# Altium footprint library PcbLib1.PcbLib: 8 footprints
Each footprint in its own frame and in the unit in brackets; x right, y up, seen from the top. Pads: shape width x height; smd on the part's side, far side on the other; paste and mask are expansions set on the pad; w line width, h text height; cw(c..) or ccw(c..) is an arc to the next point about the centre after c.
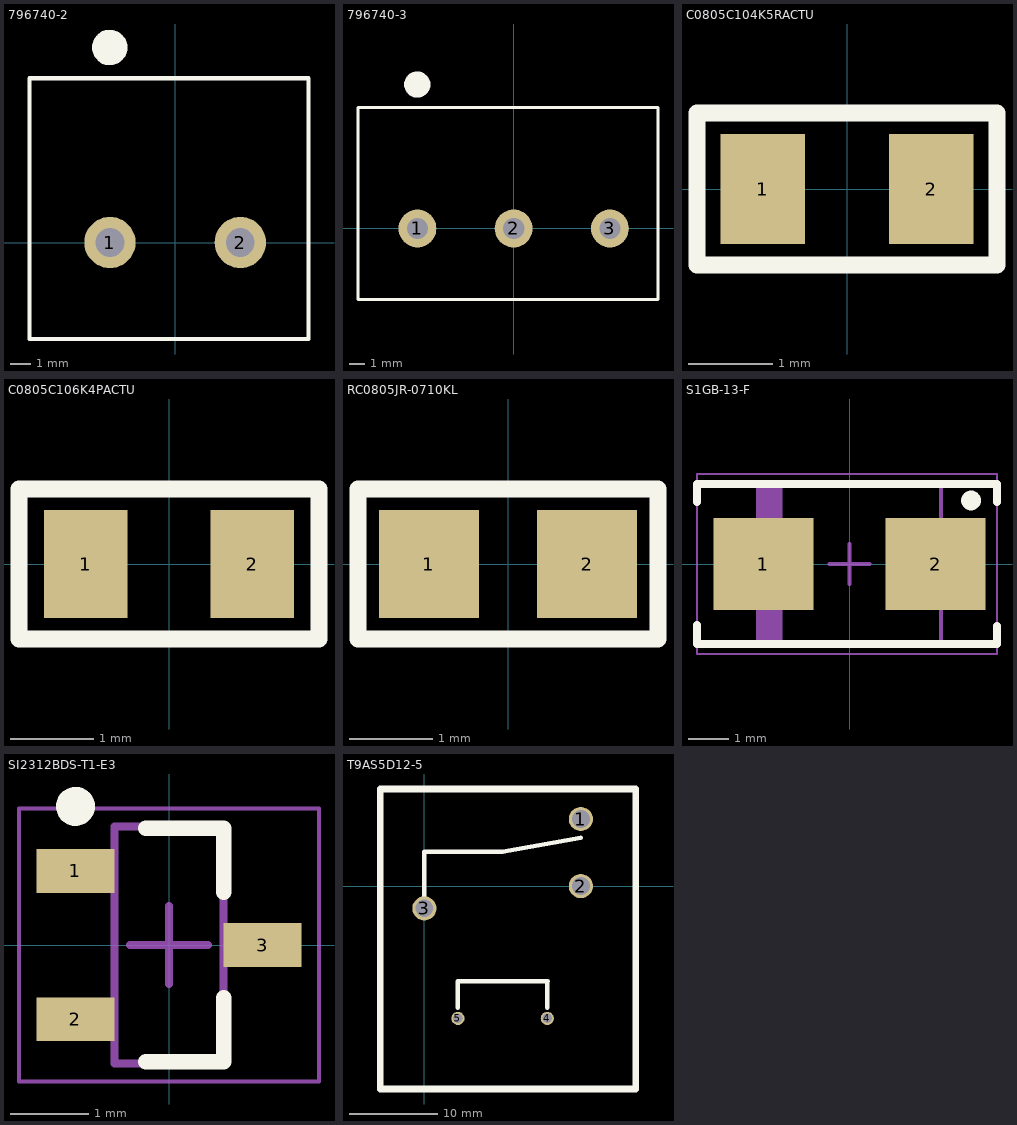
[diagram p0: the footprints below, top view; thin cyan lines are the x and y axes]

## 796740-2 [mm]
pads (2):
  round 2.5 hole 1.4: 1(-3.175,0) 2(3.175,0)
Top Overlay:
  circle w0.9: c-3.188,9.5 r0.412
  lines w0.2: -7.1,-4.7 6.5,-4.7 6.5,8 -7.1,8 -7.1,-4.7
3D body "796740-2.stp": height 21.51, standoff -4.99, extent -6.95,-4.6 6.35,7.9

## 796740-3 [mm]
pads (3):
  round 2.5 hole 1.4: 1(-6.35,0) 2(0,0) 3(6.35,0)
Top Overlay:
  circle w0.9: c-6.363,9.5 r0.412
  lines w0.2: -10.275,-4.7 -10.275,8 9.525,8 9.525,-4.7 -10.275,-4.7
3D body "796740-3.stp": height 21.51, standoff -4.99, extent -10.125,-4.6 9.525,7.9

## C0805C104K5RACTU [mm]
pads (2):
  rect 1x1.3 smd: 1(-1,0) 2(1,0)
Top Overlay:
  lines w0.2: -1.778,-0.9 1.778,-0.9 1.778,0.9 -1.778,0.9 -1.778,-0.9
3D body "CAPC2012X88N EIA 0805.step": height 0.89, standoff 0.01, extent -1,-0.6 1,0.6

## C0805C106K4PACTU [mm]
pads (2):
  rect 1x1.3 smd: 1(-1,0) 2(1,0)
Top Overlay:
  lines w0.2: -1.8,-0.9 -1.8,0.9 1.8,0.9 1.8,-0.9 -1.8,-0.9
3D body "CAPC2012X140N EIA 0805.step": height 1.21, standoff 0.01, extent -1,-0.7 1,0.7

## RC0805JR-0710KL [mm]
pads (2):
  rect 1.2x1.3 smd: 1(-0.95,0) 2(0.95,0)
Top Overlay:
  lines w0.2: -1.8,-0.9 -1.8,0.9 1.8,0.9 1.8,-0.9 -1.8,-0.9
3D body "RC0805JR-0710KL.STEP": height 0.61, standoff 0.01, extent -1,-0.625 1,0.625

## S1GB-13-F [mm]
height 2.5
pads (2):
  rect 2.5x2.3 smd: 1(-2.15,0) 2(2.15,0)
Top Overlay:
  circle w0.254: c3.035,1.587 r0.12
  lines w0.2: -3.81,-1.524 -3.81,-2 3.683,-2 3.683,-1.55 ; -3.81,1.55 -3.81,2 3.683,2 3.683,1.55
Mechanical 13:
  rectangle: -2.285,-1.97 -1.67,1.97
  lines w0.1: -2.285,-1.97 2.285,-1.97 2.285,1.97 -2.285,1.97 -2.285,-1.97
Mechanical 15:
  lines w0.05: -3.81,-2.25 3.683,-2.25 3.683,2.25 -3.81,2.25 -3.81,-2.25
  lines w0.1: -0.5,0 0.5,0 ; 0,-0.5 0,0.5
3D body "DIOM4336X25N.step": height 2.5, standoff 0, extent -2.505,-1.97 2.505,1.97

## SI2312BDS-T1-E3 [mm]
height 1.12
pads (3):
  rect 1x0.559 smd: 1(-1.2,0.95) 2(-1.2,-0.95) 3(1.2,0)
Top Overlay:
  circle w0.25: c-1.2,1.78 r0.125
  lines w0.2: -0.3,-1.5 0.7,-1.5 0.7,-0.679 ; -0.3,1.5 0.7,1.5 0.7,0.68
Mechanical 13:
  lines w0.1: -0.7,-1.52 -0.7,1.52 0.7,1.52 0.7,-1.52 -0.7,-1.52
Mechanical 15:
  lines w0.05: -1.925,-1.75 -1.925,1.75 1.925,1.75 1.925,-1.75 -1.925,-1.75
  lines w0.1: -0.5,0 0.5,0 ; 0,-0.5 0,0.5
3D body "SOT95P237X112-3N_NMOSFET.step": height 1.12, standoff 0, extent -1.32,-1.52 1.32,1.52

## T9AS5D12-5 [mm]
pads (5):
  round 2.75 hole 2.06: 1(17.78,7.62) 2(17.78,0)
  round 2.75 hole 1.98: 3(0,-2.54)
  round 1.5 hole 1.09: 4(13.97,-15.04) 5(3.81,-15.04)
Top Overlay:
  lines w0.5: -0.02,3.9 8.88,3.9 17.78,5.5 ; 0,-2.54 0,3.88 ; 3.78,-13.84 3.78,-10.84 ; 3.8,-10.8 14,-10.8 ; 13.97,-13.84 13.97,-10.85
  lines w0.75: -5,-23.061 24,-23.061 24,11.034 -5,11.034 -5,-23.061
Bottom Overlay:
  lines w0.5: 3.78,-12.67 3.81,-12.7
3D body "c-3-1393210-9-j-3d.stp": height 20.05, standoff -3.7, extent -4.232,-22.219 23.2,10.3